# Altium schematic symbol library FPGA_Xilinx_Virtex5.SchLib: 41 symbols (part 3 of 17)
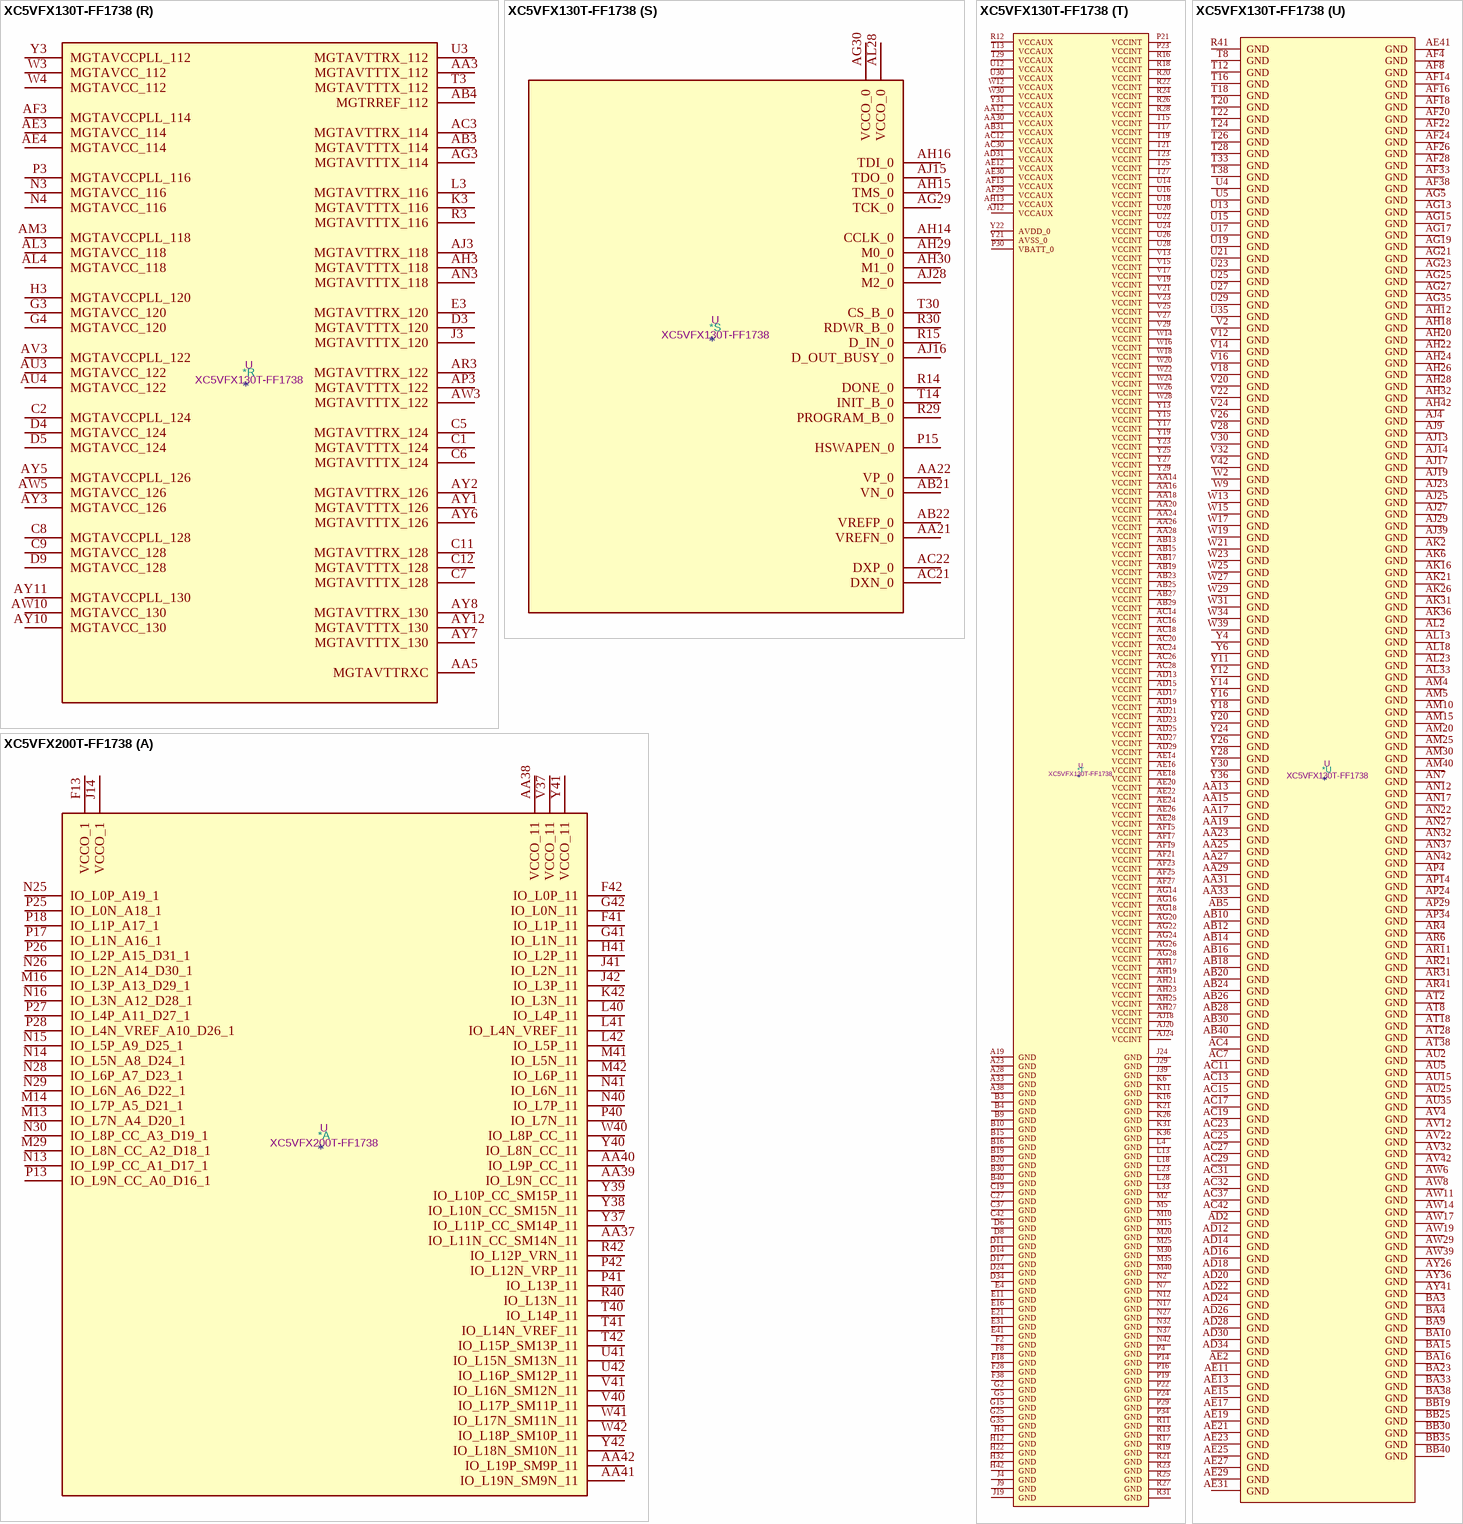
[diagram p139: symbols XC5VFX130T-FF1738 to XC5VFX200T-FF1738]

## XC5VFX130T-FF1738
designator *  value XC5VFX130T-FF1738  Reference: U
Virtex 5 FXT 130 XC5VFX130T-FF1738; ki_keywords: FPGA; Description_: Virtex 5 FXT 130 XC5VFX130T-FF1738
part A pins: AA37 IO_L11N_CC_SM14N_11, AA38 VCCO_11, AA39 IO_L9N_CC_11, AA40 IO_L9P_CC_11, AA41 IO_L19N_SM9N_11, AA42 IO_L19P_SM9P_11, F13 VCCO_1, F41 IO_L1P_11, F42 IO_L0P_11, G41 IO_L1N_11, G42 IO_L0N_11, H41 IO_L2P_11, J14 VCCO_1, J41 IO_L2N_11, J42 IO_L3P_11, K42 IO_L3N_11, L40 IO_L4P_11, L41 IO_L4N_VREF_11, L42 IO_L5P_11, M13 IO_L7N_A4_D20_1, M14 IO_L7P_A5_D21_1, M16 IO_L3P_A13_D29_1, M29 IO_L8N_CC_A2_D18_1, M41 IO_L5N_11, M42 IO_L6P_11, N13 IO_L9P_CC_A1_D17_1, N14 IO_L5N_A8_D24_1, N15 IO_L5P_A9_D25_1, N16 IO_L3N_A12_D28_1, N25 IO_L0P_A19_1, N26 IO_L2N_A14_D30_1, N28 IO_L6P_A7_D23_1, N29 IO_L6N_A6_D22_1, N30 IO_L8P_CC_A3_D19_1, N40 IO_L7P_11, N41 IO_L6N_11, P13 IO_L9N_CC_A0_D16_1, P17 IO_L1N_A16_1, P18 IO_L1P_A17_1, P25 IO_L0N_A18_1, P26 IO_L2P_A15_D31_1, P27 IO_L4P_A11_D27_1, P28 IO_L4N_VREF_A10_D26_1, P40 IO_L7N_11, P41 IO_L13P_11, P42 IO_L12N_VRP_11, R40 IO_L13N_11, R42 IO_L12P_VRN_11, T40 IO_L14P_11, T41 IO_L14N_VREF_11, T42 IO_L15P_SM13P_11, U41 IO_L15N_SM13N_11, U42 IO_L16P_SM12P_11, V37 VCCO_11, V40 IO_L17P_SM11P_11, V41 IO_L16N_SM12N_11, W40 IO_L8P_CC_11, W41 IO_L17N_SM11N_11, W42 IO_L18P_SM10P_11, Y37 IO_L11P_CC_SM14P_11, Y38 IO_L10N_CC_SM15N_11, Y39 IO_L10P_CC_SM15P_11, Y40 IO_L8N_CC_11, Y41 VCCO_11, Y42 IO_L18N_SM10N_11
part B pins: AA6 IO_L0N_12, AA7 IO_L0P_12, AA8 VCCO_12, AA9 IO_L17P_12, AA10 IO_L16N_12, AA11 IO_L16P_12, AB35 VCCO_13, AB37 IO_L8P_CC_SM1P_13, AB38 IO_L8N_CC_SM1N_13, AB39 IO_L9P_CC_SM0P_13, AB41 IO_L0P_SM8P_13, AB42 IO_L0N_SM8N_13, AC38 IO_L9N_CC_SM0N_13, AC39 IO_L11N_CC_13, AC40 IO_L11P_CC_13, AC41 IO_L1P_SM7P_13, AD39 VCCO_13, AD40 IO_L10N_CC_13, AD41 IO_L2N_SM6N_13, AD42 IO_L1N_SM7N_13, AE36 VCCO_13, AE40 IO_L10P_CC_13, AE42 IO_L2P_SM6P_13, AF40 IO_L4P_13, AF41 IO_L3P_SM5P_13, AF42 IO_L3N_SM5N_13, AG41 IO_L4N_VREF_13, AG42 IO_L5P_SM4P_13, AH40 IO_L7P_SM2P_13, AH41 IO_L5N_SM4N_13, AJ40 IO_L7N_SM2N_13, AJ41 IO_L6N_SM3N_13, AJ42 IO_L6P_SM3P_13, AK40 IO_L12P_VRN_13, AK42 IO_L13N_13, AL40 IO_L12N_VRP_13, AL41 IO_L13P_13, AL42 IO_L14P_13, AM41 IO_L15P_13, AM42 IO_L14N_VREF_13, AN41 IO_L15N_13, AP41 IO_L16N_13, AP42 IO_L16P_13, AR42 IO_L17P_13, AT41 IO_L18P_13, AT42 IO_L17N_13, AU41 IO_L18N_13, AU42 IO_L19P_13, AV41 IO_L19N_13, G6 IO_L1P_12, H5 IO_L1N_12, H6 IO_L3P_12, J5 IO_L3N_12, J6 IO_L5P_12, K4 IO_L7P_12, K5 IO_L5N_12, L5 IO_L7N_12, L6 IO_L9P_CC_12, M6 IO_L9N_CC_12, N5 IO_L10P_CC_12, N6 IO_L10N_CC_12, P5 IO_L12P_VRN_12, P6 IO_L12N_VRP_12, R4 IO_L14P_12, R5 IO_L14N_VREF_12, T4 IO_L15N_12, T5 IO_L15P_12, T6 IO_L13N_12, T7 IO_L13P_12, U6 IO_L11N_CC_12, U7 IO_L11P_CC_12, U10 VCCO_12, V5 IO_L8P_CC_12, V6 IO_L8N_CC_12, V7 VCCO_12, V8 IO_L6N_12, W5 IO_L2P_12, W6 IO_L2N_12, W7 IO_L4N_VREF_12, W8 IO_L6P_12, W10 IO_L18N_12, W11 IO_L18P_12, Y7 IO_L4P_12, Y8 IO_L19N_12, Y9 IO_L19P_12, Y10 IO_L17N_12
part C pins: AA34 IO_L17P_15, AA35 IO_L16P_15, AA36 IO_L16N_15, AB34 IO_L0P_17, AB36 IO_L1N_17, AC34 IO_L0N_17, AC35 IO_L1P_17, AC36 IO_L2P_17, AD35 IO_L2N_17, AD36 IO_L3P_17, AD37 IO_L3N_17, AD38 IO_L4N_VREF_17, AE37 IO_L4P_17, AE38 IO_L5N_17, AE39 IO_L5P_17, AF37 IO_L7N_17, AF39 IO_L6P_17, AG37 IO_L7P_17, AG38 IO_L6N_17, AG39 IO_L12P_VRN_17, AG40 VCCO_17, AH37 VCCO_17, AH38 IO_L15N_17, AH39 IO_L12N_VRP_17, AJ37 IO_L15P_17, AJ38 IO_L13P_17, AK37 IO_L14N_VREF_17, AK38 IO_L14P_17, AK39 IO_L13N_17, AK41 VCCO_17, AL37 IO_L19N_17, AL39 IO_L16P_17, AM37 IO_L19P_17, AM38 IO_L18N_17, AM39 IO_L16N_17, AN38 IO_L18P_17, AN39 IO_L17P_17, AN40 IO_L8P_CC_17, AP38 IO_L17N_17, AP40 IO_L8N_CC_17, AR39 IO_L11N_CC_17, AR40 IO_L9P_CC_17, AT39 IO_L11P_CC_17, AT40 IO_L9N_CC_17, AU39 IO_L10N_CC_17, AV40 IO_L10P_CC_17, E39 IO_L3P_15, E40 IO_L3N_15, F39 IO_L2P_15, F40 IO_L2N_15, G38 IO_L1P_15, G39 IO_L1N_15, H38 IO_L0P_15, H39 IO_L0N_15, H40 IO_L10P_CC_15, J38 IO_L9N_CC_15, J40 IO_L10N_CC_15, K38 IO_L9P_CC_15, K39 IO_L11N_CC_15, K40 IO_L11P_CC_15, L39 IO_L8N_CC_15, M38 IO_L8P_CC_15, M39 IO_L7N_15, N38 IO_L6N_15, N39 IO_L7P_15, P37 IO_L5N_15, P38 IO_L6P_15, P39 VCCO_15, R36 VCCO_15, R37 IO_L5P_15, R38 IO_L4N_VREF_15, R39 IO_L4P_15, T37 IO_L13P_15, T39 IO_L14P_15, U37 IO_L12N_VRP_15, U38 IO_L13N_15, U39 IO_L14N_VREF_15, U40 VCCO_15, V38 IO_L12P_VRN_15, V39 IO_L15P_15, W35 IO_L18N_15, W36 IO_L19P_15, W37 IO_L19N_15, W38 IO_L15N_15, Y34 IO_L17N_15, Y35 IO_L18P_15
part D pins: AA32 IO_L19N_19, AB6 IO_L9N_CC_18, AB7 IO_L9P_CC_18, AB8 IO_L3N_18, AB9 IO_L3P_18, AB11 IO_L1P_18, AC5 IO_L10P_CC_18, AC6 IO_L10N_CC_18, AC8 IO_L5P_18, AC9 IO_L5N_18, AC10 IO_L1N_18, AD5 IO_L14N_VREF_18, AD6 IO_L12P_VRN_18, AD7 IO_L12N_VRP_18, AD8 IO_L16P_18, AD9 VCCO_18, AD10 IO_L7P_18, AD11 IO_L7N_18, AE5 IO_L14P_18, AE6 VCCO_18, AE7 IO_L15N_18, AE8 IO_L16N_18, AE9 IO_L18P_18, AE10 IO_L18N_18, AF5 IO_L11P_CC_18, AF6 IO_L11N_CC_18, AF7 IO_L15P_18, AF9 IO_L17P_18, AF10 IO_L17N_18, AF11 IO_L19P_18, AF12 IO_L19N_18, AG4 IO_L8P_CC_18, AG6 IO_L13P_18, AG7 IO_L13N_18, AG10 VCCO_18, AH4 IO_L8N_CC_18, AH5 IO_L6N_18, AH6 IO_L6P_18, AJ5 IO_L4N_VREF_18, AJ6 IO_L4P_18, AJ7 IO_L0P_18, AK5 IO_L2N_18, AK7 IO_L0N_18, AL5 IO_L2P_18, D37 IO_L15N_19, E37 IO_L14N_VREF_19, E38 IO_L15P_19, F36 IO_L13P_19, F37 IO_L14P_19, G36 IO_L13N_19, G37 IO_L12N_VRP_19, G40 VCCO_19, H35 IO_L6P_19, H36 IO_L12P_VRN_19, J35 IO_L5N_19, J36 IO_L6N_19, J37 IO_L7N_19, K35 IO_L5P_19, K37 IO_L7P_19, K41 VCCO_19, L35 IO_L4N_VREF_19, L36 IO_L4P_19, L37 IO_L2P_19, L38 VCCO_19, M36 IO_L1N_19, M37 IO_L2N_19, N35 IO_L1P_19, N36 IO_L3P_19, P35 IO_L0N_19, P36 IO_L3N_19, R34 IO_L0P_19, R35 IO_L10P_CC_19, T34 IO_L9P_CC_19, T35 IO_L8N_CC_19, T36 IO_L10N_CC_19, U33 IO_L9N_CC_19, U34 IO_L8P_CC_19, U36 IO_L11P_CC_19, V33 IO_L17P_19, V34 IO_L16N_19, V35 IO_L16P_19, V36 IO_L11N_CC_19, W32 IO_L18N_19, W33 IO_L17N_19, Y32 IO_L19P_19, Y33 IO_L18P_19
part E pins: AJ26 IO_L9N_D0_FS0_2, AJ30 IO_L1P_CC_A25_2, AK12 IO_L0P_CC_RS1_2, AK13 IO_L0N_CC_RS0_2, AK14 IO_L2N_A22_2, AK15 IO_L2P_A23_2, AK27 IO_L9P_D1_FS1_2, AK28 IO_L7P_D5_2, AK29 IO_L7N_D4_2, AK30 IO_L1N_CC_A24_2, AL14 IO_L4P_FCS_B_2, AL29 IO_L5N_CSO_B_2, AL30 IO_L3P_A21_2, AM13 IO_L4N_VREF_FOE_B_MOSI_2, AM14 IO_L8N_D2_FS2_2, AM28 IO_L5P_FWE_B_2, AM29 IO_L3N_A20_2, AN13 IO_L6P_D7_2, AN14 IO_L8P_D3_2, AP13 IO_L6N_D6_2, AR26 VCCO_2, AV27 VCCO_2, D7 IO_L3P_20, E5 IO_L7P_20, E7 IO_L3N_20, E8 IO_L1N_20, E9 IO_L1P_20, F5 IO_L7N_20, F6 IO_L5N_20, F7 IO_L5P_20, F9 IO_L9P_CC_20, G7 IO_L10P_CC_20, G8 IO_L10N_CC_20, G9 IO_L9N_CC_20, H8 IO_L12P_VRN_20, H9 IO_L12N_VRP_20, J7 IO_L14N_VREF_20, J8 IO_L14P_20, K7 IO_L17P_20, K8 IO_L16P_20, K9 IO_L16N_20, L7 IO_L17N_20, L8 VCCO_20, L9 IO_L19N_20, M7 IO_L18P_20, M8 IO_L18N_20, M9 IO_L19P_20, N8 IO_L0N_20, N9 IO_L0P_20, P7 IO_L2P_20, P8 IO_L2N_20, P9 VCCO_20, R6 VCCO_20, R7 IO_L4P_20, R8 IO_L4N_VREF_20, R9 IO_L6P_20, T9 IO_L6N_20, T10 IO_L13P_20, T11 IO_L13N_20, U8 IO_L11P_CC_20, U9 IO_L11N_CC_20, U11 IO_L15P_20, V9 IO_L8P_CC_20, V10 IO_L8N_CC_20, V11 IO_L15N_20
part F pins: AB32 IO_L0N_21, AB33 IO_L0P_21, AC33 IO_L1P_21, AD32 IO_L1N_21, AD33 IO_L2P_21, AE32 IO_L2N_21, AE33 IO_L3P_21, AE34 IO_L3N_21, AE35 IO_L8P_CC_21, AF34 IO_L8N_CC_21, AF35 IO_L9P_CC_21, AF36 IO_L9N_CC_21, AG34 IO_L10N_CC_21, AG36 IO_L11N_CC_21, AH34 IO_L10P_CC_21, AH35 IO_L11P_CC_21, AH36 IO_L16P_21, AJ34 VCCO_21, AJ35 IO_L17P_21, AJ36 IO_L16N_21, AK34 IO_L19N_21, AK35 IO_L17N_21, AL34 IO_L19P_21, AL35 IO_L18N_21, AL36 IO_L18P_21, AL38 VCCO_21, AM34 IO_L15N_21, AM35 VCCO_21, AM36 IO_L14P_21, AN34 IO_L15P_21, AN35 IO_L14N_VREF_21, AN36 IO_L13N_21, AP35 IO_L13P_21, AP36 IO_L12N_VRP_21, AP37 IO_L12P_VRN_21, AR37 IO_L7P_21, AR38 IO_L6N_21, AT36 IO_L7N_21, AT37 IO_L6P_21, AU37 IO_L5N_21, AU38 IO_L5P_21, AV38 IO_L4N_VREF_21, AV39 IO_L4P_21, D39 VCCO_23, E32 IO_L11P_CC_23, E33 IO_L11N_CC_23, E34 IO_L9P_CC_23, E35 IO_L8N_CC_23, E36 VCCO_23, F31 IO_L10P_CC_23, F32 IO_L10N_CC_23, F34 IO_L9N_CC_23, F35 IO_L8P_CC_23, G31 IO_L6N_23, G32 IO_L6P_23, G33 IO_L5P_23, G34 IO_L4N_VREF_23, H31 IO_L7P_23, H33 IO_L5N_23, H34 IO_L4P_23, H37 VCCO_23, J31 IO_L7N_23, J32 IO_L14N_VREF_23, J33 IO_L13N_23, K32 IO_L14P_23, K33 IO_L13P_23, K34 IO_L12N_VRP_23, L31 IO_L15N_23, L32 IO_L15P_23, L34 IO_L12P_VRN_23, M31 IO_L2N_23, M32 IO_L2P_23, M33 IO_L1N_23, M34 IO_L1P_23, N31 IO_L3P_23, N33 IO_L0P_23, N34 IO_L0N_23, P31 IO_L3N_23, P32 IO_L16N_23, P33 IO_L16P_23, R32 IO_L17N_23, R33 IO_L17P_23, T31 IO_L19N_23, T32 IO_L18P_23, U31 IO_L19P_23, U32 IO_L18N_23
part G pins: AF31 IO_L0N_25, AF32 IO_L1P_25, AG31 IO_L0P_25, AG32 IO_L2N_25, AG33 IO_L1N_25, AH31 IO_L3P_25, AH33 IO_L2P_25, AJ31 IO_L3N_25, AJ32 IO_L17P_25, AJ33 IO_L16N_25, AK32 IO_L17N_25, AK33 IO_L16P_25, AL31 IO_L19P_25, AL32 IO_L18P_25, AM31 IO_L19N_25, AM32 IO_L18N_25, AM33 IO_L15N_25, AN31 IO_L12N_VRP_25, AN33 IO_L15P_25, AP31 IO_L12P_VRN_25, AP32 IO_L13N_25, AP33 IO_L14N_VREF_25, AP39 VCCO_25, AR32 IO_L13P_25, AR33 IO_L14P_25, AR34 IO_L7N_25, AR35 IO_L7P_25, AR36 VCCO_25, AT31 IO_L11N_CC_25, AT32 IO_L11P_CC_25, AT34 IO_L6N_25, AT35 IO_L5N_25, AU31 IO_L10N_CC_25, AU32 IO_L8P_CC_25, AU33 IO_L8N_CC_25, AU34 IO_L6P_25, AU36 IO_L5P_25, AU40 VCCO_25, AV31 IO_L10P_CC_25, AV33 IO_L9P_CC_25, AV34 IO_L9N_CC_25, AV35 IO_L4P_25, AV36 IO_L4N_VREF_25, D12 IO_L15N_24, D13 IO_L17P_24, E6 VCCO_24, E10 IO_L3P_24, E12 IO_L15P_24, E13 IO_L13N_24, E14 IO_L17N_24, E15 IO_L19P_24, F10 IO_L3N_24, F11 IO_L2N_24, F12 IO_L2P_24, F14 IO_L13P_24, F15 IO_L19N_24, G10 VCCO_24, G11 IO_L1N_24, G12 IO_L1P_24, G13 IO_L11P_CC_24, G14 IO_L11N_CC_24, H7 VCCO_24, H10 IO_L7P_24, H11 IO_L0N_24, H13 IO_L6N_24, H14 IO_L8P_CC_24, H15 IO_L8N_CC_24, J10 IO_L7N_24, J11 IO_L5N_24, J12 IO_L0P_24, J13 IO_L6P_24, K10 IO_L9P_CC_24, K12 IO_L5P_24, K13 IO_L4N_VREF_24, K14 IO_L4P_24, L10 IO_L9N_CC_24, L11 IO_L10N_CC_24, L12 IO_L10P_CC_24, M11 IO_L12P_VRN_24, M12 IO_L12N_VRP_24, N10 IO_L16N_24, N11 IO_L14P_24, P10 IO_L18N_24, P11 IO_L16P_24, P12 IO_L14N_VREF_24, R10 IO_L18P_24
part H pins: A30 IO_L2P_27, A31 IO_L2N_27, A32 IO_L3P_27, A34 IO_L7P_27, A35 IO_L7N_27, A36 IO_L10N_CC_27, A37 IO_L10P_CC_27, A39 IO_L15P_27, A40 IO_L15N_27, A41 IO_L16P_27, AG8 IO_L9P_CC_26, AG9 IO_L3P_26, AG11 IO_L1N_26, AG12 IO_L1P_26, AH7 VCCO_26, AH8 IO_L9N_CC_26, AH9 IO_L3N_26, AH10 IO_L5P_26, AH11 IO_L5N_26, AJ8 IO_L10N_CC_26, AJ10 IO_L7N_26, AJ11 IO_L7P_26, AK8 IO_L10P_CC_26, AK9 IO_L12P_VRN_26, AK10 IO_L12N_VRP_26, AK11 VCCO_26, AL6 IO_L16P_26, AL7 IO_L16N_26, AL8 VCCO_26, AL9 IO_L14P_26, AL10 IO_L14N_VREF_26, AM6 IO_L18N_26, AM7 IO_L19P_26, AM8 IO_L19N_26, AM9 IO_L8P_CC_26, AN4 IO_L17P_26, AN5 IO_L17N_26, AN6 IO_L18P_26, AN8 IO_L11P_CC_26, AN9 IO_L8N_CC_26, AP5 IO_L15N_26, AP6 IO_L15P_26, AP7 IO_L13P_26, AP8 IO_L11N_CC_26, AR5 IO_L2N_26, AR7 IO_L0N_26, AR8 IO_L13N_26, AT5 IO_L4P_26, AT6 IO_L2P_26, AT7 IO_L0P_26, AU6 IO_L4N_VREF_26, AV5 IO_L6N_26, AV6 IO_L6P_26, B31 IO_L1N_27, B32 IO_L3N_27, B33 IO_L4P_27, B34 IO_L6N_27, B35 VCCO_27, B36 IO_L11N_CC_27, B37 IO_L11P_CC_27, B38 IO_L14N_VREF_27, B39 IO_L14P_27, B41 IO_L16N_27, B42 IO_L17P_27, C30 IO_L1P_27, C31 IO_L0N_27, C33 IO_L4N_VREF_27, C34 IO_L6P_27, C35 IO_L9N_CC_27, C36 IO_L9P_CC_27, C38 IO_L12P_VRN_27, C39 IO_L13P_27, C40 IO_L13N_27, C41 IO_L17N_27, D31 IO_L0P_27, D32 IO_L5P_27, D33 IO_L5N_27, D35 IO_L8P_CC_27, D36 IO_L8N_CC_27, D38 IO_L12N_VRP_27, D40 IO_L18P_27, D41 IO_L18N_27, D42 IO_L19N_27, E42 IO_L19P_27, F33 VCCO_27, J34 VCCO_27
part I pins: AT33 VCCO_29, AV37 VCCO_29, AW31 IO_L19N_29, AW32 IO_L15N_29, AW33 IO_L15P_29, AW34 VCCO_29, AW35 IO_L11N_CC_29, AW36 IO_L9N_CC_29, AW37 IO_L6N_29, AW38 IO_L7P_29, AW40 IO_L1N_29, AW41 IO_L1P_29, AW42 IO_L0N_29, AY30 IO_L19P_29, AY32 IO_L16P_29, AY33 IO_L14P_29, AY34 IO_L14N_VREF_29, AY35 IO_L11P_CC_29, AY37 IO_L9P_CC_29, AY38 IO_L6P_29, AY39 IO_L7N_29, AY40 IO_L2P_29, AY42 IO_L0P_29, BA30 IO_L18P_29, BA31 IO_L18N_29, BA32 IO_L16N_29, BA34 IO_L13N_29, BA35 IO_L12N_VRP_29, BA36 IO_L10N_CC_29, BA37 IO_L8N_CC_29, BA39 IO_L5N_29, BA40 IO_L4P_29, BA41 IO_L2N_29, BA42 IO_L3P_29, BB31 IO_L17N_29, BB32 IO_L17P_29, BB33 IO_L13P_29, BB34 IO_L12P_VRN_29, BB36 IO_L10P_CC_29, BB37 IO_L8P_CC_29, BB38 IO_L5P_29, BB39 IO_L4N_VREF_29, BB41 IO_L3N_29, E26 VCCO_3, H27 VCCO_3, J15 IO_L0N_CC_GC_3, J16 IO_L0P_CC_GC_3, J17 IO_L2P_GC_VRN_3, J30 IO_L7N_GC_3, K15 IO_L8N_GC_3, K17 IO_L2N_GC_VRP_3, K28 IO_L5N_GC_3, K29 IO_L7P_GC_3, K30 IO_L9P_GC_3, L14 IO_L8P_GC_3, L15 IO_L6N_GC_3, L16 IO_L6P_GC_3, L17 IO_L4P_GC_3, L27 IO_L1N_CC_GC_3, L29 IO_L5P_GC_3, L30 IO_L9N_GC_3, M17 IO_L4N_GC_VREF_3, M26 IO_L1P_CC_GC_3, M27 IO_L3P_GC_3, M28 IO_L3N_GC_3
part J pins: AK17 IO_L1P_GC_D13_4, AL15 IO_L3P_GC_D9_4, AL16 IO_L3N_GC_D8_4, AL17 IO_L1N_GC_D12_4, AL26 IO_L8N_CC_GC_4, AL27 IO_L8P_CC_GC_4, AM16 IO_L5P_GC_4, AM17 IO_L5N_GC_4, AM26 IO_L6N_GC_4, AM27 IO_L6P_GC_4, AN15 IO_L7P_GC_VRN_4, AN16 IO_L7N_GC_VRP_4, AN28 IO_L4N_GC_VREF_4, AN29 IO_L2P_GC_D11_4, AN30 IO_L0P_GC_D15_4, AP15 IO_L9N_CC_GC_4, AP16 IO_L9P_CC_GC_4, AP27 IO_L4P_GC_4, AP28 IO_L2N_GC_D10_4, AP30 IO_L0N_GC_D14_4, AR16 VCCO_4, AT13 VCCO_4, B25 VCCO_5, C22 VCCO_5, E17 IO_L1N_5, E18 IO_L1P_5, F16 IO_L3P_5, F17 IO_L3N_5, F23 VCCO_5, F27 IO_L13N_5, F29 IO_L17N_5, G16 IO_L5P_5, G17 IO_L7N_5, G18 IO_L7P_5, G27 IO_L13P_5, G28 IO_L15P_5, G29 IO_L17P_5, H16 IO_L5N_5, H18 IO_L9N_CC_5, H26 IO_L6P_5, H28 IO_L15N_5, H29 IO_L19P_5, H30 IO_L19N_5, J18 IO_L9P_CC_5, J25 IO_L4N_VREF_5, J26 IO_L6N_5, J27 IO_L8N_CC_5, J28 IO_L8P_CC_5, K18 IO_L10P_CC_5, K19 IO_L10N_CC_5, K24 IO_L2P_5, K25 IO_L4P_5, K27 IO_L11P_CC_5, L19 IO_L18N_5, L20 IO_L18P_5, L24 IO_L0P_5, L25 IO_L2N_5, L26 IO_L11N_CC_5, M18 IO_L16P_5, M19 IO_L14P_5, M24 IO_L0N_5, N18 IO_L16N_5, N19 IO_L14N_VREF_5, N20 IO_L12P_VRN_5, P20 IO_L12N_VRP_5
part K pins: AK18 IO_L16P_6, AK19 IO_L16N_6, AK24 IO_L17P_6, AK25 IO_L17N_6, AL19 IO_L18N_6, AL24 IO_L19N_6, AL25 IO_L19P_6, AM18 IO_L10N_CC_6, AM19 IO_L18P_6, AM24 IO_L15P_6, AN18 IO_L10P_CC_6, AN19 IO_L9N_CC_6, AN20 IO_L9P_CC_6, AN24 IO_L15N_6, AN25 IO_L13P_6, AN26 IO_L11P_CC_6, AP17 IO_L7P_6, AP18 IO_L12N_VRP_6, AP25 IO_L13N_6, AP26 IO_L11N_CC_6, AR14 IO_L1N_6, AR15 IO_L3N_6, AR17 IO_L7N_6, AR18 IO_L12P_VRN_6, AR19 IO_L14N_VREF_6, AR27 IO_L8N_CC_6, AR28 IO_L0N_6, AR29 IO_L0P_6, AR30 IO_L2P_6, AT14 IO_L1P_6, AT15 IO_L3P_6, AT16 IO_L5N_6, AT17 IO_L5P_6, AT19 IO_L14P_6, AT23 VCCO_6, AT26 IO_L8P_CC_6, AT27 IO_L6N_6, AT29 IO_L4P_6, AT30 IO_L2N_6, AU28 IO_L6P_6, AU29 IO_L4N_VREF_6, AW24 VCCO_6, AY21 VCCO_6, D18 IO_L12N_VRP_7, D19 VCCO_7, E19 IO_L12P_VRN_7, E20 IO_L14P_7, E22 IO_L10P_CC_7, E23 IO_L10N_CC_7, F19 IO_L16P_7, F20 IO_L14N_VREF_7, F21 IO_L9N_CC_7, F22 IO_L8P_CC_7, F24 IO_L11P_CC_7, F25 IO_L17N_7, F26 IO_L17P_7, G19 IO_L16N_7, G20 VCCO_7, G21 IO_L9P_CC_7, G22 IO_L8N_CC_7, G23 IO_L11N_CC_7, G24 IO_L15P_7, G26 IO_L19N_7, H17 VCCO_7, H19 IO_L18P_7, H20 IO_L18N_7, H21 IO_L4P_7, H23 IO_L13N_7, H24 IO_L15N_7, H25 IO_L19P_7, J20 IO_L5P_7, J21 IO_L4N_VREF_7, J22 IO_L7N_7, J23 IO_L13P_7, K20 IO_L5N_7, K22 IO_L7P_7, K23 IO_L6N_7, L21 IO_L1N_7, L22 IO_L6P_7, M21 IO_L1P_7, M22 IO_L0N_7, M23 IO_L0P_7, N21 IO_L3N_7, N22 IO_L3P_7, N23 IO_L2N_7, N24 IO_L2P_7
part L pins: AJ21 IO_L2N_8, AJ22 IO_L2P_8, AK20 IO_L3P_8, AK22 IO_L1N_8, AK23 IO_L1P_8, AL20 IO_L3N_8, AL21 IO_L0P_8, AL22 IO_L0N_8, AM21 IO_L19N_8, AM22 IO_L16P_8, AM23 IO_L16N_8, AN21 IO_L19P_8, AN23 IO_L17P_8, AP19 VCCO_8, AP20 IO_L18P_8, AP21 IO_L18N_8, AP22 IO_L14N_VREF_8, AP23 IO_L17N_8, AR20 IO_L7P_8, AR22 IO_L15P_8, AR23 IO_L14P_8, AR24 IO_L8N_CC_8, AR25 IO_L6P_8, AT20 IO_L7N_8, AT21 IO_L9N_CC_8, AT22 IO_L15N_8, AT24 IO_L8P_CC_8, AT25 IO_L6N_8, AU18 IO_L5N_8, AU19 IO_L5P_8, AU20 VCCO_8, AU21 IO_L9P_CC_8, AU22 IO_L12N_VRP_8, AU23 IO_L12P_VRN_8, AU24 IO_L11P_CC_8, AU26 IO_L4P_8, AU27 IO_L4N_VREF_8, AV17 VCCO_8, AV20 IO_L10N_CC_8, AV21 IO_L10P_CC_8, AV23 IO_L13P_8, AV24 IO_L13N_8, AV25 IO_L11N_CC_8
part M pins: AA2 MGTTXP1_112, AB2 MGTTXP0_114, AC1 MGTRXP0_114, AC2 MGTTXN0_114, AD1 MGTRXN0_114, AD3 MGTREFCLKN_114, AD4 MGTREFCLKP_114, AE1 MGTRXN1_114, AF1 MGTRXP1_114, AF2 MGTTXN1_114, AG2 MGTTXP1_114, T2 MGTTXP0_112, U1 MGTRXP0_112, U2 MGTTXN0_112, V1 MGTRXN0_112, V3 MGTREFCLKN_112, V4 MGTREFCLKP_112, W1 MGTRXN1_112, Y1 MGTRXP1_112, Y2 MGTTXN1_112
part N pins: AH2 MGTTXP0_118, AJ1 MGTRXP0_118, AJ2 MGTTXN0_118, AK1 MGTRXN0_118, AK3 MGTREFCLKN_118, AK4 MGTREFCLKP_118, AL1 MGTRXN1_118, AM1 MGTRXP1_118, AM2 MGTTXN1_118, AN2 MGTTXP1_118, K2 MGTTXP0_116, L1 MGTRXP0_116, L2 MGTTXN0_116, M1 MGTRXN0_116, M3 MGTREFCLKN_116, M4 MGTREFCLKP_116, N1 MGTRXN1_116, P1 MGTRXP1_116, P2 MGTTXN1_116, R2 MGTTXP1_116
part O pins: AP2 MGTTXP0_122, AR1 MGTRXP0_122, AR2 MGTTXN0_122, AT1 MGTRXN0_122, AT3 MGTREFCLKN_122, AT4 MGTREFCLKP_122, AU1 MGTRXN1_122, AV1 MGTRXP1_122, AV2 MGTTXN1_122, AW2 MGTTXP1_122, D2 MGTTXP0_120, E1 MGTRXP0_120, E2 MGTTXN0_120, F1 MGTRXN0_120, F3 MGTREFCLKN_120, F4 MGTREFCLKP_120, G1 MGTRXN1_120, H1 MGTRXP1_120, H2 MGTTXN1_120, J2 MGTTXP1_120
part P pins: A2 MGTRXP1_124, A3 MGTRXN1_124, A4 MGTRXN0_124, A5 MGTRXP0_124, AW4 MGTREFCLKP_126, AY4 MGTREFCLKN_126, B1 MGTTXP1_124, B2 MGTTXN1_124, B5 MGTTXN0_124, B6 MGTTXP0_124, BA1 MGTTXP0_126, BA2 MGTTXN0_126, BA5 MGTTXN1_126, BA6 MGTTXP1_126, BB2 MGTRXP0_126, BB3 MGTRXN0_126, BB4 MGTRXN1_126, BB5 MGTRXP1_126, C3 MGTREFCLKN_124, C4 MGTREFCLKP_124
part Q pins: A8 MGTRXP1_128, A9 MGTRXN1_128, A10 MGTRXN0_128, A11 MGTRXP0_128, AW9 MGTREFCLKP_130, AY9 MGTREFCLKN_130, B7 MGTTXP1_128, B8 MGTTXN1_128, B11 MGTTXN0_128, B12 MGTTXP0_128, BA7 MGTTXP0_130, BA8 MGTTXN0_130, BA11 MGTTXN1_130, BA12 MGTTXP1_130, BB8 MGTRXP0_130, BB9 MGTRXN0_130, BB10 MGTRXN1_130, BB11 MGTRXP1_130, C10 MGTREFCLKN_128, D10 MGTREFCLKP_128
part R pins: AA3 MGTAVTTTX_112, AA5 MGTAVTTRXC, AB3 MGTAVTTTX_114, AB4 MGTRREF_112, AC3 MGTAVTTRX_114, AE3 MGTAVCC_114, AE4 MGTAVCC_114, AF3 MGTAVCCPLL_114, AG3 MGTAVTTTX_114, AH3 MGTAVTTTX_118, AJ3 MGTAVTTRX_118, AL3 MGTAVCC_118, AL4 MGTAVCC_118, AM3 MGTAVCCPLL_118, AN3 MGTAVTTTX_118, AP3 MGTAVTTTX_122, AR3 MGTAVTTRX_122, AU3 MGTAVCC_122, AU4 MGTAVCC_122, AV3 MGTAVCCPLL_122, AW3 MGTAVTTTX_122, AW5 MGTAVCC_126, AW10 MGTAVCC_130, AY1 MGTAVTTTX_126, AY2 MGTAVTTRX_126, AY3 MGTAVCC_126, AY5 MGTAVCCPLL_126, AY6 MGTAVTTTX_126, AY7 MGTAVTTTX_130, AY8 MGTAVTTRX_130, AY10 MGTAVCC_130, AY11 MGTAVCCPLL_130, AY12 MGTAVTTTX_130, C1 MGTAVTTTX_124, C2 MGTAVCCPLL_124, C5 MGTAVTTRX_124, C6 MGTAVTTTX_124, C7 MGTAVTTTX_128, C8 MGTAVCCPLL_128, C9 MGTAVCC_128, C11 MGTAVTTRX_128, C12 MGTAVTTTX_128, D3 MGTAVTTTX_120, D4 MGTAVCC_124, D5 MGTAVCC_124, D9 MGTAVCC_128, E3 MGTAVTTRX_120, G3 MGTAVCC_120, G4 MGTAVCC_120, H3 MGTAVCCPLL_120, J3 MGTAVTTTX_120, K3 MGTAVTTTX_116, L3 MGTAVTTRX_116, N3 MGTAVCC_116, N4 MGTAVCC_116, P3 MGTAVCCPLL_116, R3 MGTAVTTTX_116, T3 MGTAVTTTX_112, U3 MGTAVTTRX_112, W3 MGTAVCC_112, W4 MGTAVCC_112, Y3 MGTAVCCPLL_112
part S pins: AA21 VREFN_0, AA22 VP_0, AB21 VN_0, AB22 VREFP_0, AC21 DXN_0, AC22 DXP_0, AG29 TCK_0, AG30 VCCO_0, AH14 CCLK_0, AH15 TMS_0, AH16 TDI_0, AH29 M0_0, AH30 M1_0, AJ15 TDO_0, AJ16 D_OUT_BUSY_0, AJ28 M2_0, AL28 VCCO_0, P15 HSWAPEN_0, R14 DONE_0, R15 D_IN_0, R29 PROGRAM_B_0, R30 RDWR_B_0, T14 INIT_B_0, T30 CS_B_0
part T pins: A19 GND, A23 GND, A28 GND, A33 GND, A38 GND, AA12 VCCAUX, AA14 VCCINT, AA16 VCCINT, AA18 VCCINT, AA20 VCCINT, AA24 VCCINT, AA26 VCCINT, AA28 VCCINT, AA30 VCCAUX, AB13 VCCINT, AB15 VCCINT, AB17 VCCINT, AB19 VCCINT, AB23 VCCINT, AB25 VCCINT, AB27 VCCINT, AB29 VCCINT, AB31 VCCAUX, AC12 VCCAUX, AC14 VCCINT, AC16 VCCINT, AC18 VCCINT, AC20 VCCINT, AC24 VCCINT, AC26 VCCINT, AC28 VCCINT, AC30 VCCAUX, AD13 VCCINT, AD15 VCCINT, AD17 VCCINT, AD19 VCCINT, AD21 VCCINT, AD23 VCCINT, AD25 VCCINT, AD27 VCCINT, AD29 VCCINT, AD31 VCCAUX, AE12 VCCAUX, AE14 VCCINT, AE16 VCCINT, AE18 VCCINT, AE20 VCCINT, AE22 VCCINT, AE24 VCCINT, AE26 VCCINT, AE28 VCCINT, AE30 VCCAUX, AF13 VCCAUX, AF15 VCCINT, AF17 VCCINT, AF19 VCCINT, AF21 VCCINT, AF23 VCCINT, AF25 VCCINT, AF27 VCCINT, AF29 VCCAUX, AG14 VCCINT, AG16 VCCINT, AG18 VCCINT, AG20 VCCINT, AG22 VCCINT, AG24 VCCINT, AG26 VCCINT, AG28 VCCINT, AH13 VCCAUX, AH17 VCCINT, AH19 VCCINT, AH21 VCCINT, AH23 VCCINT, AH25 VCCINT, AH27 VCCINT, AJ12 VCCAUX, AJ18 VCCINT, AJ20 VCCINT, AJ24 VCCINT, B3 GND, B4 GND, B9 GND, B10 GND, B15 GND, B16 GND, B19 GND, B20 GND, B30 GND, B40 GND, C19 GND, C27 GND, C37 GND, C42 GND, D6 GND, D8 GND, D11 GND, D14 GND, D17 GND, D24 GND, D34 GND, E4 GND, E11 GND, E16 GND, E21 GND, E31 GND, E41 GND, F2 GND, F8 GND, F18 GND, F28 GND, F38 GND, G2 GND, G5 GND, G15 GND, G25 GND, G35 GND, H4 GND, H12 GND, H22 GND, H32 GND, H42 GND, J4 GND, J9 GND, J19 GND, J24 GND, J29 GND, J39 GND, K6 GND, K11 GND, K16 GND, K21 GND, K26 GND, K31 GND, K36 GND, L4 GND, L13 GND, L18 GND, L23 GND, L28 GND, L33 GND, M2 GND, M5 GND, M10 GND, M15 GND, M20 GND, M25 GND, M30 GND, M35 GND, M40 GND, N2 GND, N7 GND, N12 GND, N17 GND, N27 GND, N32 GND, N37 GND, N42 GND, P4 GND, P14 GND, P16 GND, P19 GND, P21 VCCINT, P22 GND, P23 VCCINT, P24 GND, P29 GND, P30 VBATT_0, P34 GND, R11 GND, R12 VCCAUX, R13 GND, R16 VCCINT, R17 GND, R18 VCCINT, R19 GND, R20 VCCINT, R21 GND, R22 VCCINT, R23 GND, R24 VCCINT, R25 GND, R26 VCCINT, R27 GND, R28 VCCINT, R31 GND, T13 VCCAUX, T15 VCCINT, T17 VCCINT, T19 VCCINT, T21 VCCINT, T23 VCCINT, T25 VCCINT, T27 VCCINT, T29 VCCAUX, U12 VCCAUX, U14 VCCINT, U16 VCCINT, U18 VCCINT, U20 VCCINT, U22 VCCINT, U24 VCCINT, U26 VCCINT, U28 VCCINT, U30 VCCAUX, V13 VCCINT, V15 VCCINT, V17 VCCINT, V19 VCCINT, V21 VCCINT, V23 VCCINT, V25 VCCINT, V27 VCCINT, V29 VCCINT, W12 VCCAUX, W14 VCCINT, W16 VCCINT, W18 VCCINT, W20 VCCINT, W22 VCCINT, W24 VCCINT, W26 VCCINT, W28 VCCINT, W30 VCCAUX, Y13 VCCINT, Y15 VCCINT, Y17 VCCINT, Y19 VCCINT, Y21 AVSS_0, Y22 AVDD_0, Y23 VCCINT, Y25 VCCINT, Y27 VCCINT, Y29 VCCINT, Y31 VCCAUX
part U pins: AA13 GND, AA15 GND, AA17 GND, AA19 GND, AA23 GND, AA25 GND, AA27 GND, AA29 GND, AA31 GND, AA33 GND, AB5 GND, AB10 GND, AB12 GND, AB14 GND, AB16 GND, AB18 GND, AB20 GND, AB24 GND, AB26 GND, AB28 GND, AB30 GND, AB40 GND, AC4 GND, AC7 GND, AC11 GND, AC13 GND, AC15 GND, AC17 GND, AC19 GND, AC23 GND, AC25 GND, AC27 GND, AC29 GND, AC31 GND, AC32 GND, AC37 GND, AC42 GND, AD2 GND, AD12 GND, AD14 GND, AD16 GND, AD18 GND, AD20 GND, AD22 GND, AD24 GND, AD26 GND, AD28 GND, AD30 GND, AD34 GND, AE2 GND, AE11 GND, AE13 GND, AE15 GND, AE17 GND, AE19 GND, AE21 GND, AE23 GND, AE25 GND, AE27 GND, AE29 GND, AE31 GND, AE41 GND, AF4 GND, AF8 GND, AF14 GND, AF16 GND, AF18 GND, AF20 GND, AF22 GND, AF24 GND, AF26 GND, AF28 GND, AF33 GND, AF38 GND, AG5 GND, AG13 GND, AG15 GND, AG17 GND, AG19 GND, AG21 GND, AG23 GND, AG25 GND, AG27 GND, AG35 GND, AH12 GND, AH18 GND, AH20 GND, AH22 GND, AH24 GND, AH26 GND, AH28 GND, AH32 GND, AH42 GND, AJ4 GND, AJ9 GND, AJ13 GND, AJ14 GND, AJ17 GND, AJ19 GND, AJ23 GND, AJ25 GND, AJ27 GND, AJ29 GND, AJ39 GND, AK2 GND, AK6 GND, AK16 GND, AK21 GND, AK26 GND, AK31 GND, AK36 GND, AL2 GND, AL13 GND, AL18 GND, AL23 GND, AL33 GND, AM4 GND, AM5 GND, AM10 GND, AM15 GND, AM20 GND, AM25 GND, AM30 GND, AM40 GND, AN7 GND, AN12 GND, AN17 GND, AN22 GND, AN27 GND, AN32 GND, AN37 GND, AN42 GND, AP4 GND, AP14 GND, AP24 GND, AP29 GND, AP34 GND, AR4 GND, AR6 GND, AR11 GND, AR21 GND, AR31 GND, AR41 GND, AT2 GND, AT8 GND, AT18 GND, AT28 GND, AT38 GND, AU2 GND, AU5 GND, AU15 GND, AU25 GND, AU35 GND, AV4 GND, AV12 GND, AV22 GND, AV32 GND, AV42 GND, AW6 GND, AW8 GND, AW11 GND, AW14 GND, AW17 GND, AW19 GND, AW29 GND, AW39 GND, AY26 GND, AY36 GND, AY41 GND, BA3 GND, BA4 GND, BA9 GND, BA10 GND, BA15 GND, BA16 GND, BA23 GND, BA33 GND, BA38 GND, BB19 GND, BB25 GND, BB30 GND, BB35 GND, BB40 GND, R41 GND, T8 GND, T12 GND, T16 GND, T18 GND, T20 GND, T22 GND, T24 GND, T26 GND, T28 GND, T33 GND, T38 GND, U4 GND, U5 GND, U13 GND, U15 GND, U17 GND, U19 GND, U21 GND, U23 GND, U25 GND, U27 GND, U29 GND, U35 GND, V2 GND, V12 GND, V14 GND, V16 GND, V18 GND, V20 GND, V22 GND, V24 GND, V26 GND, V28 GND, V30 GND, V32 GND, V42 GND, W2 GND, W9 GND, W13 GND, W15 GND, W17 GND, W19 GND, W21 GND, W23 GND, W25 GND, W27 GND, W29 GND, W31 GND, W34 GND, W39 GND, Y4 GND, Y6 GND, Y11 GND, Y12 GND, Y14 GND, Y16 GND, Y18 GND, Y20 GND, Y24 GND, Y26 GND, Y28 GND, Y30 GND, Y36 GND

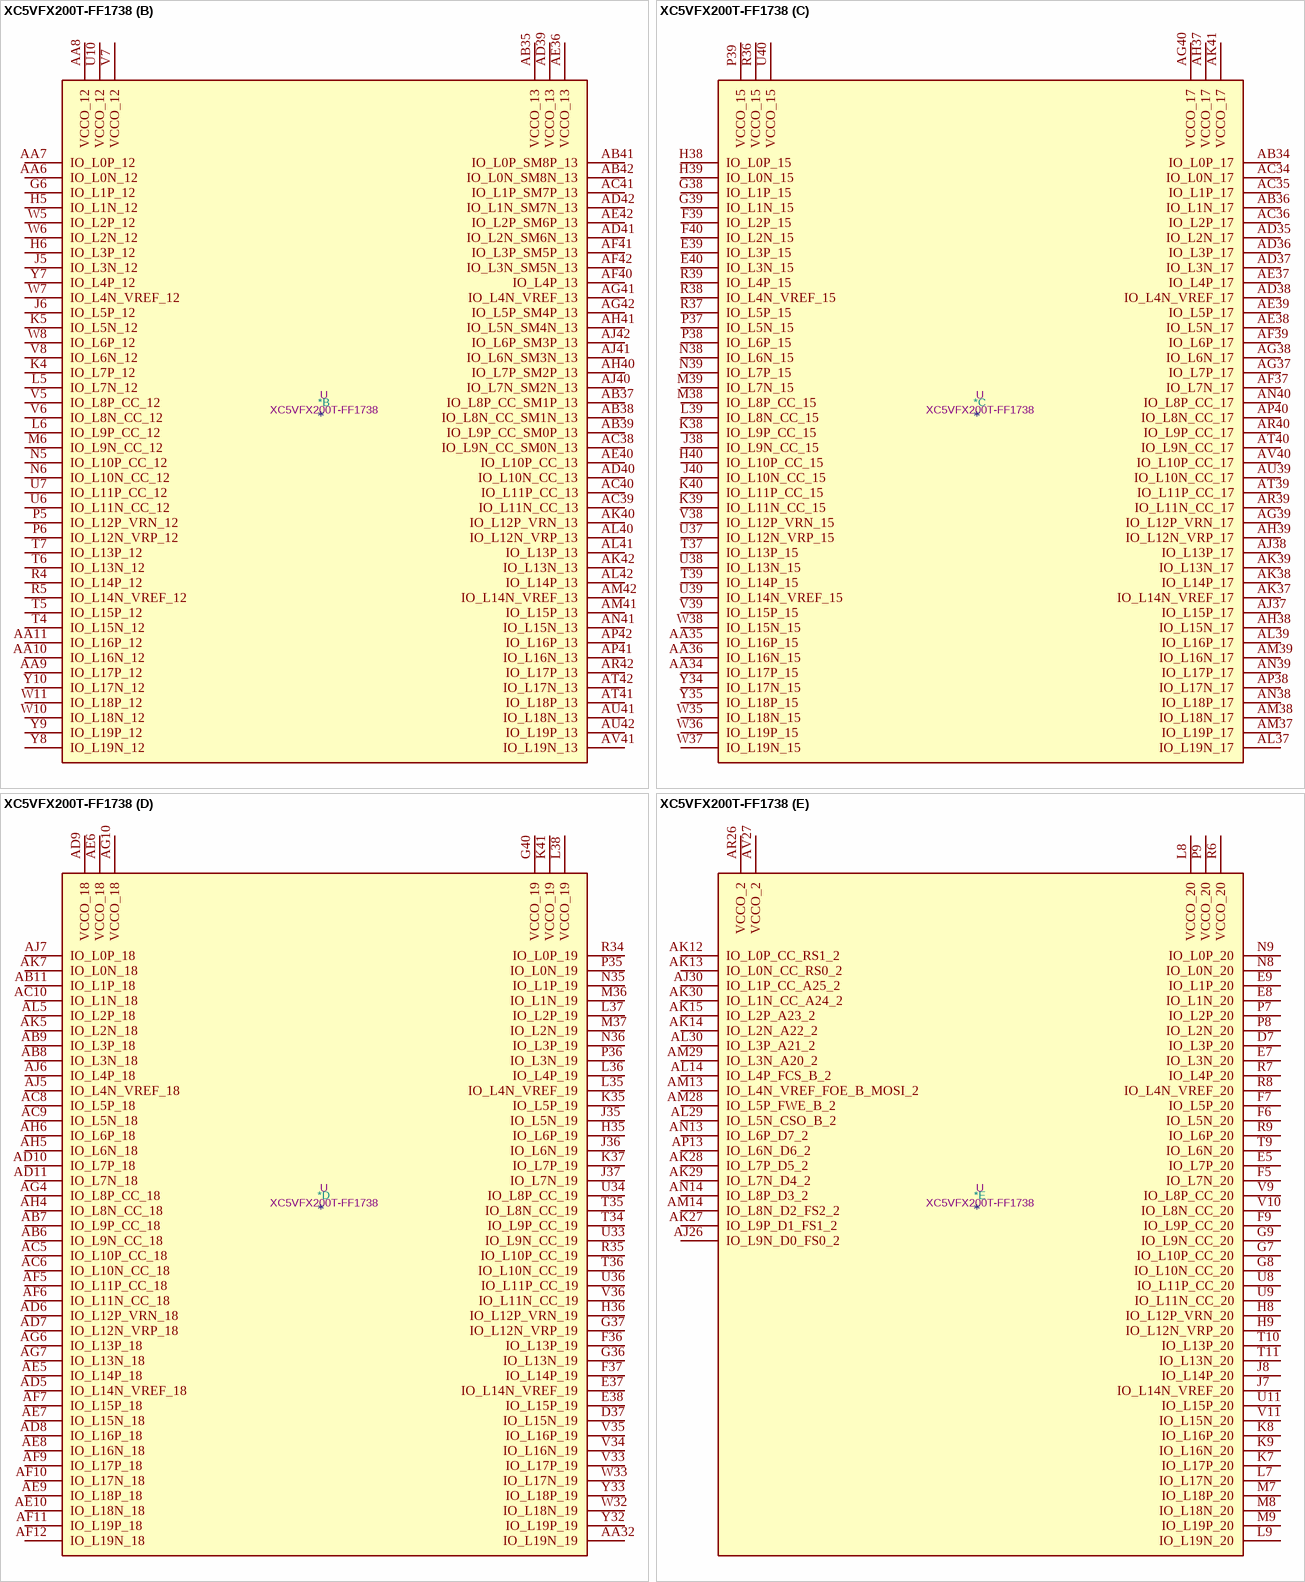
[diagram p21: symbol XC5VFX200T-FF1738]

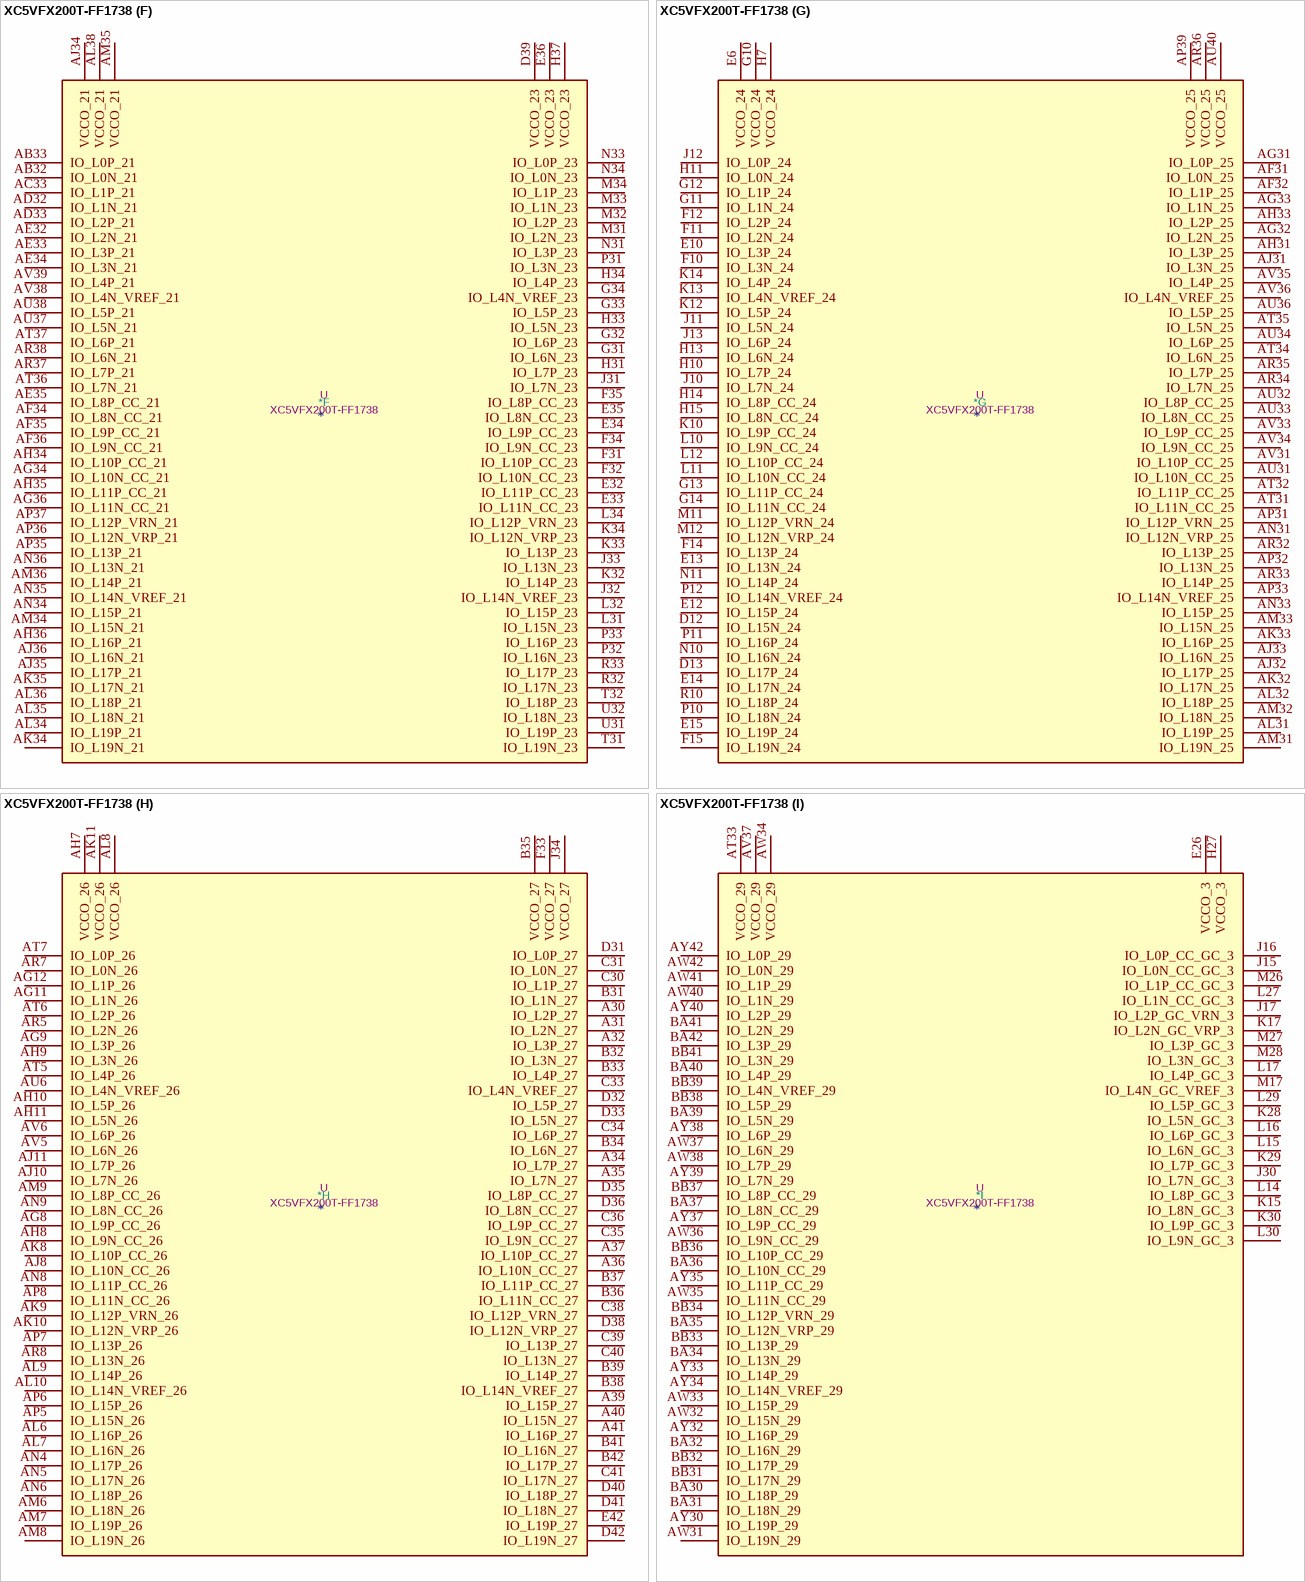
[diagram p22: symbol XC5VFX200T-FF1738]

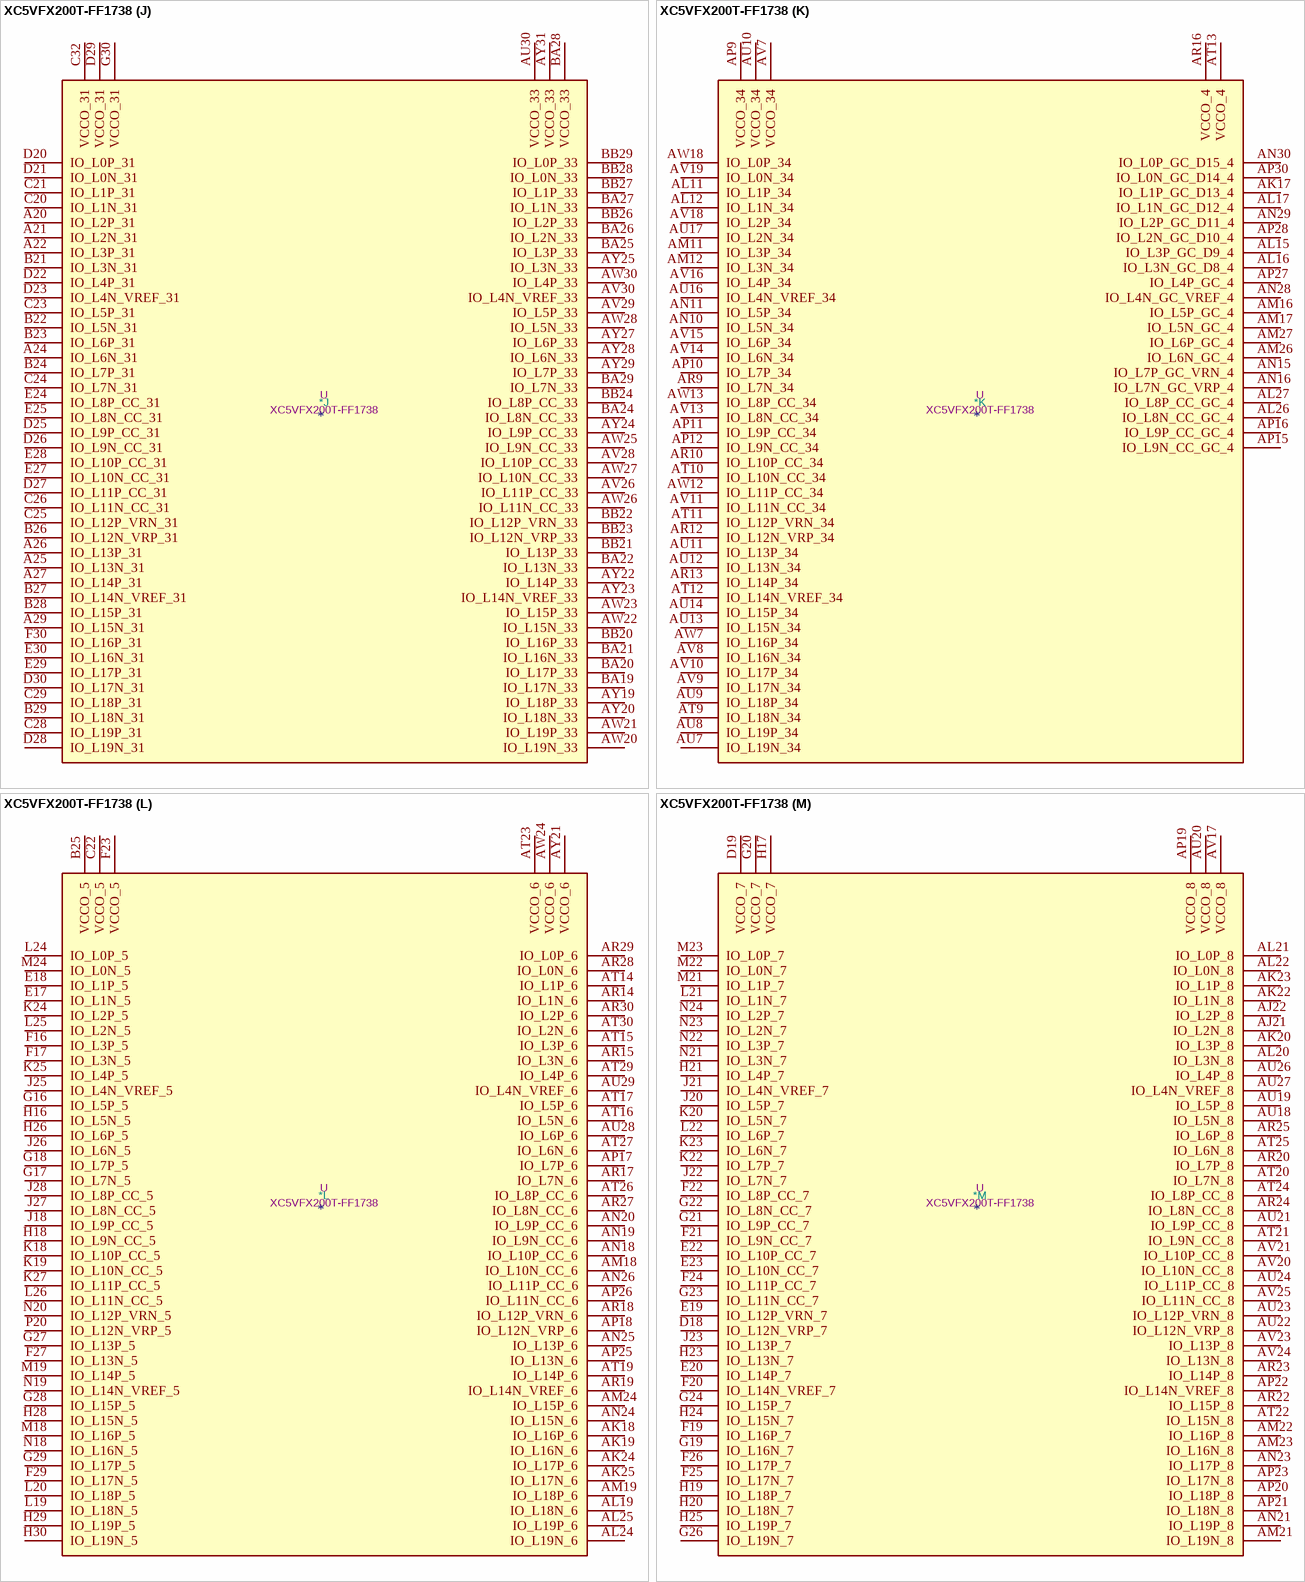
[diagram p23: symbol XC5VFX200T-FF1738]

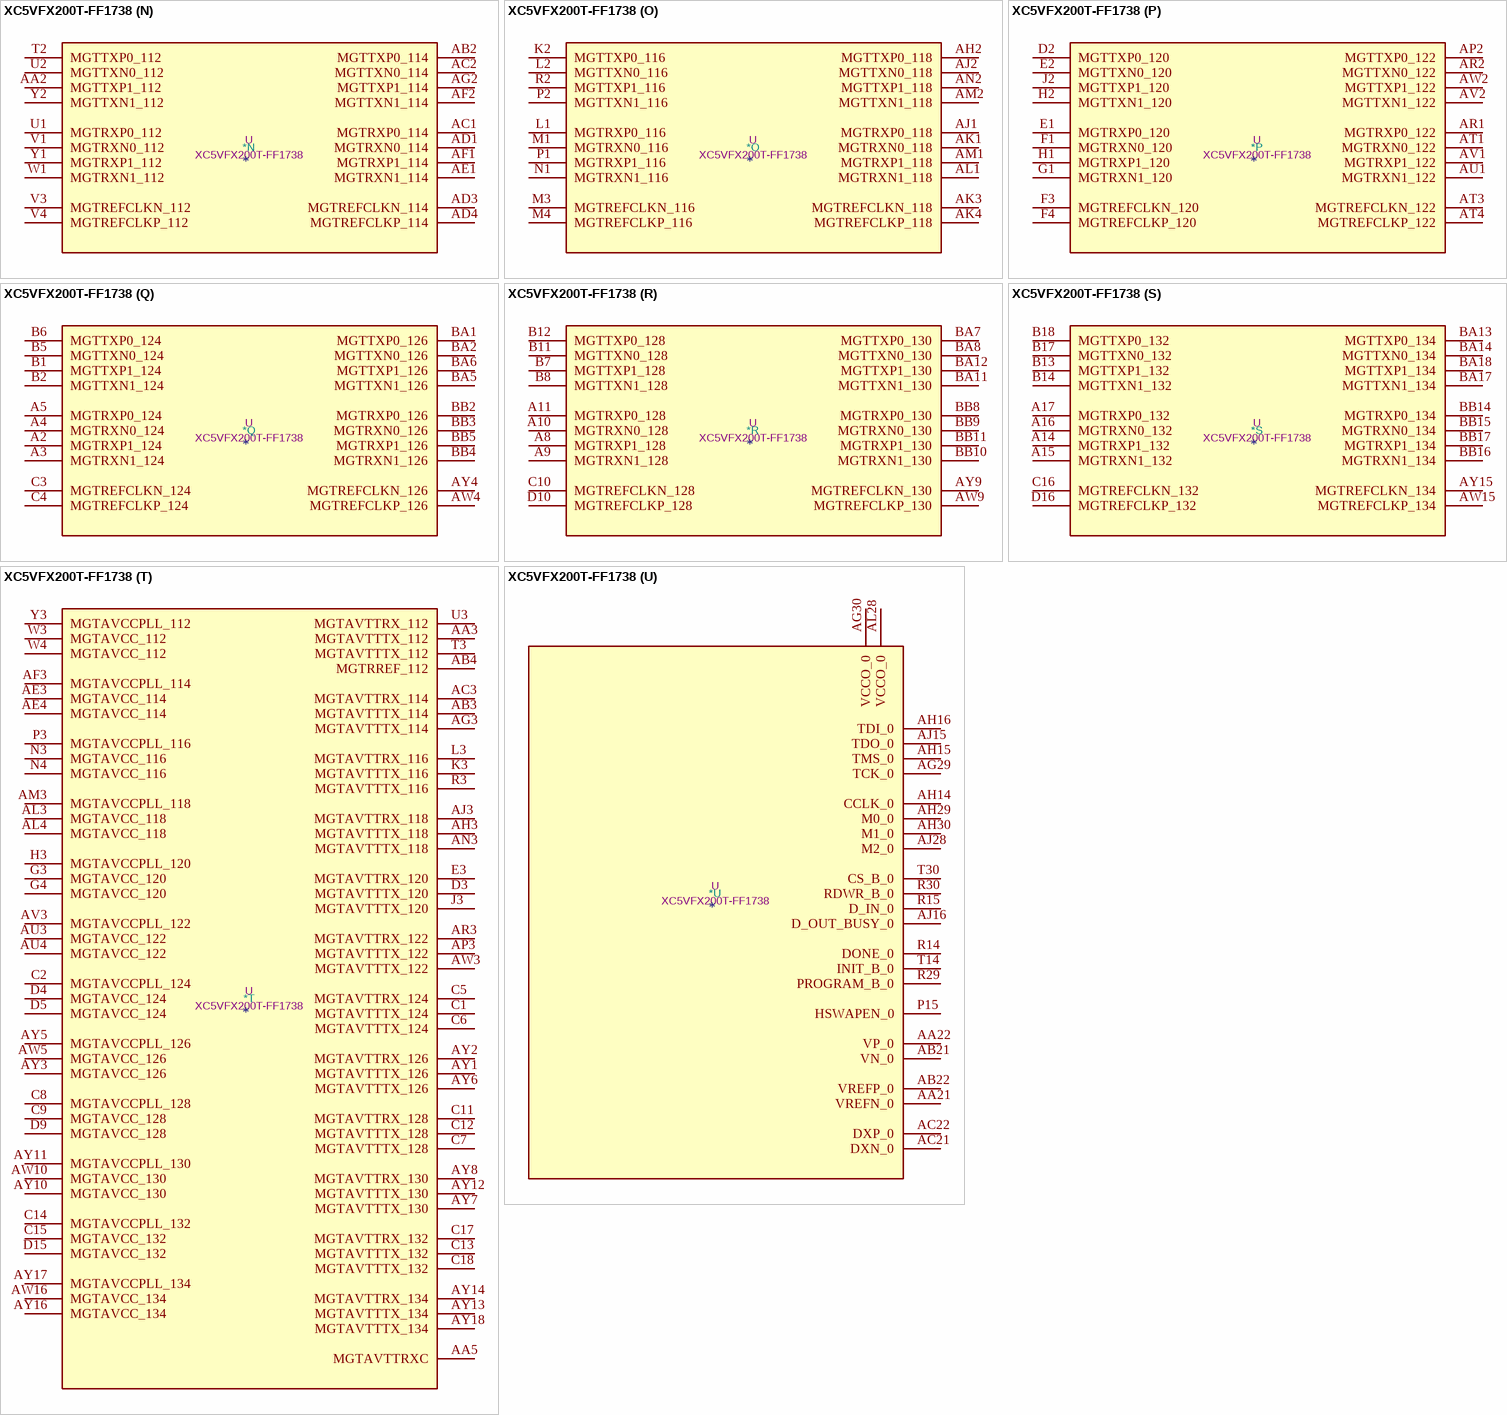
[diagram p24: symbol XC5VFX200T-FF1738]

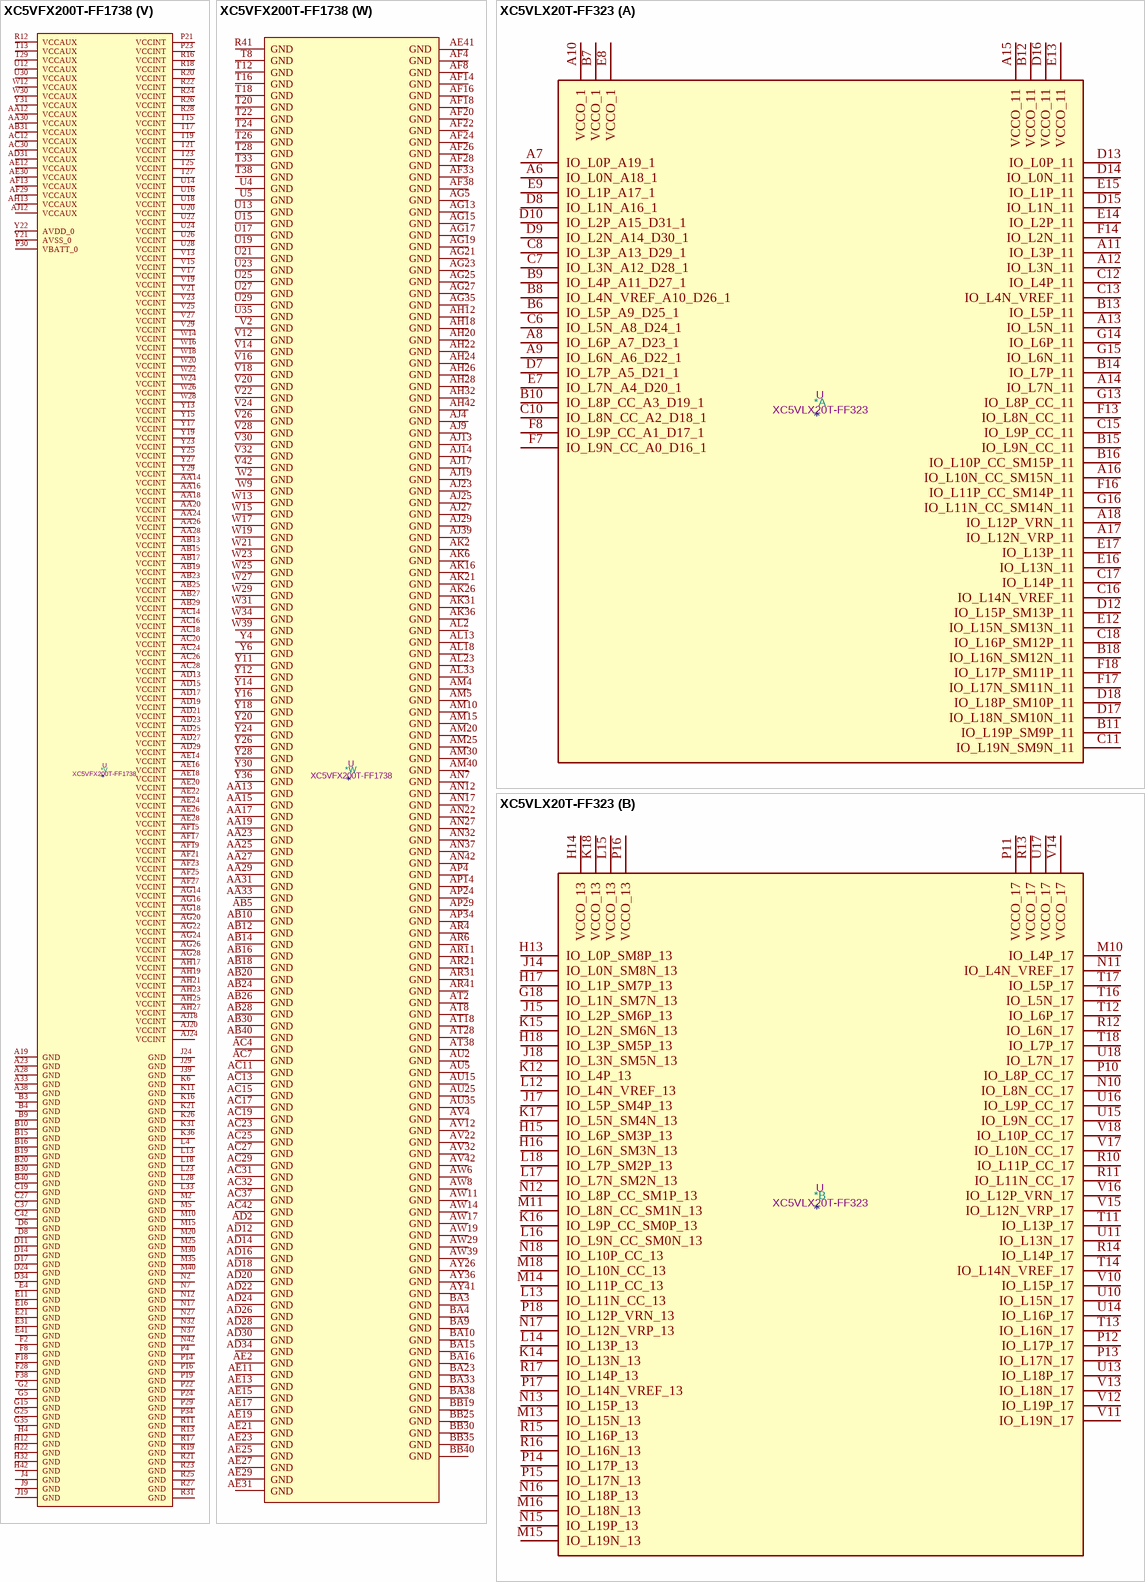
[diagram p25: symbols XC5VFX200T-FF1738 to XC5VLX20T-FF323]